# EAGLE library part 20POS_MOLEX (library MICROCONTROLLER)
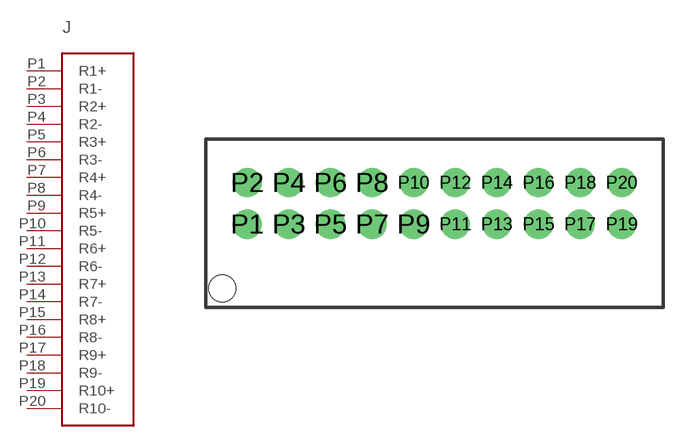
[diagram p8: symbol with the pads of 20POS_MOLEX; footprint 20POS_MOLEX]

Designator prefix J

## 20POS_MOLEX  [20POS_MOLEX]
P1  R1+
P2  R1-
P3  R2+
P4  R2-
P5  R3+
P6  R3-
P7  R4+
P8  R4-
P9  R5+
P10  R5-
P11  R6+
P12  R6-
P13  R7+
P14  R7-
P15  R8+
P16  R8-
P17  R9+
P18  R9-
P19  R10+
P20  R10-

## Footprint 20POS_MOLEX (pad centres in mm)
drill 0.8 pad 1.4: P1 0,-2; P2 0,0; P3 2,-2; P4 2,0; P5 4,-2; P6 4,0; P7 6,-2; P8 6,0; P9 8,-2; P10 8,0; P11 10,-2; P12 10,0; P13 12,-2; P14 12,0; P15 14,-2; P16 14,0; P17 16,-2; P18 16,0; P19 18,-2; P20 18,0
hole 1.3 at -1.2,-5.1